# EAGLE library part LT3591 (library PowerProducts)
White LED Driver with Integrated Schottky in 3mm x 2mm DFN
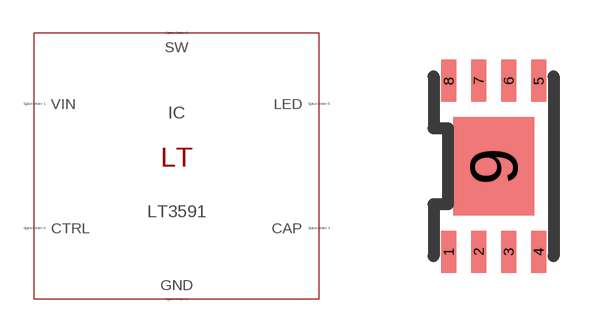
[diagram p78: symbol with the pads of DFN8(DDB); footprint DFN8(DDB)]

Designator prefix IC

## LT3591 (SPICEMODEL: LT3591.sub; SPICEPREFIX: X; VALUE2: LT3591)  [DFN8(DDB)]
1  VIN  pas
2  GND  pas
4  SW  pas
5  CAP  pas
7  LED  pas
8  CTRL  pas
9  GND  pas

## Footprint DFN8(DDB) (pad centres in mm)
Package generated from: DFN8(DDB).asc (!PADS-POWERPCB-V5.0-BASIC! DESIGN DATABASE ASCII FILE 1.0) with :import-pads-powerpcb-v5.ulp Version 1.0.1 at 04.10.2012 14:11:17
smd 0.375 x 1.05: 1 -1.125,-2.138; 2 -0.375,-2.138; 3 0.375,-2.138; 4 1.125,-2.138; 5 1.125,2.138; 6 0.375,2.138; 7 -0.375,2.138; 8 -1.125,2.138
smd 2.025 x 2.475: 9 0,0